# Altium footprint library 常用元件.PcbLib: 186 footprints (part 5 of 12)
Each footprint in its own frame and in the unit in brackets; x right, y up, seen from the top. Pads: shape width x height; smd on the part's side, far side on the other; paste and mask are expansions set on the pad; w line width, h text height; cw(c..) or ccw(c..) is an arc to the next point about the centre after c.
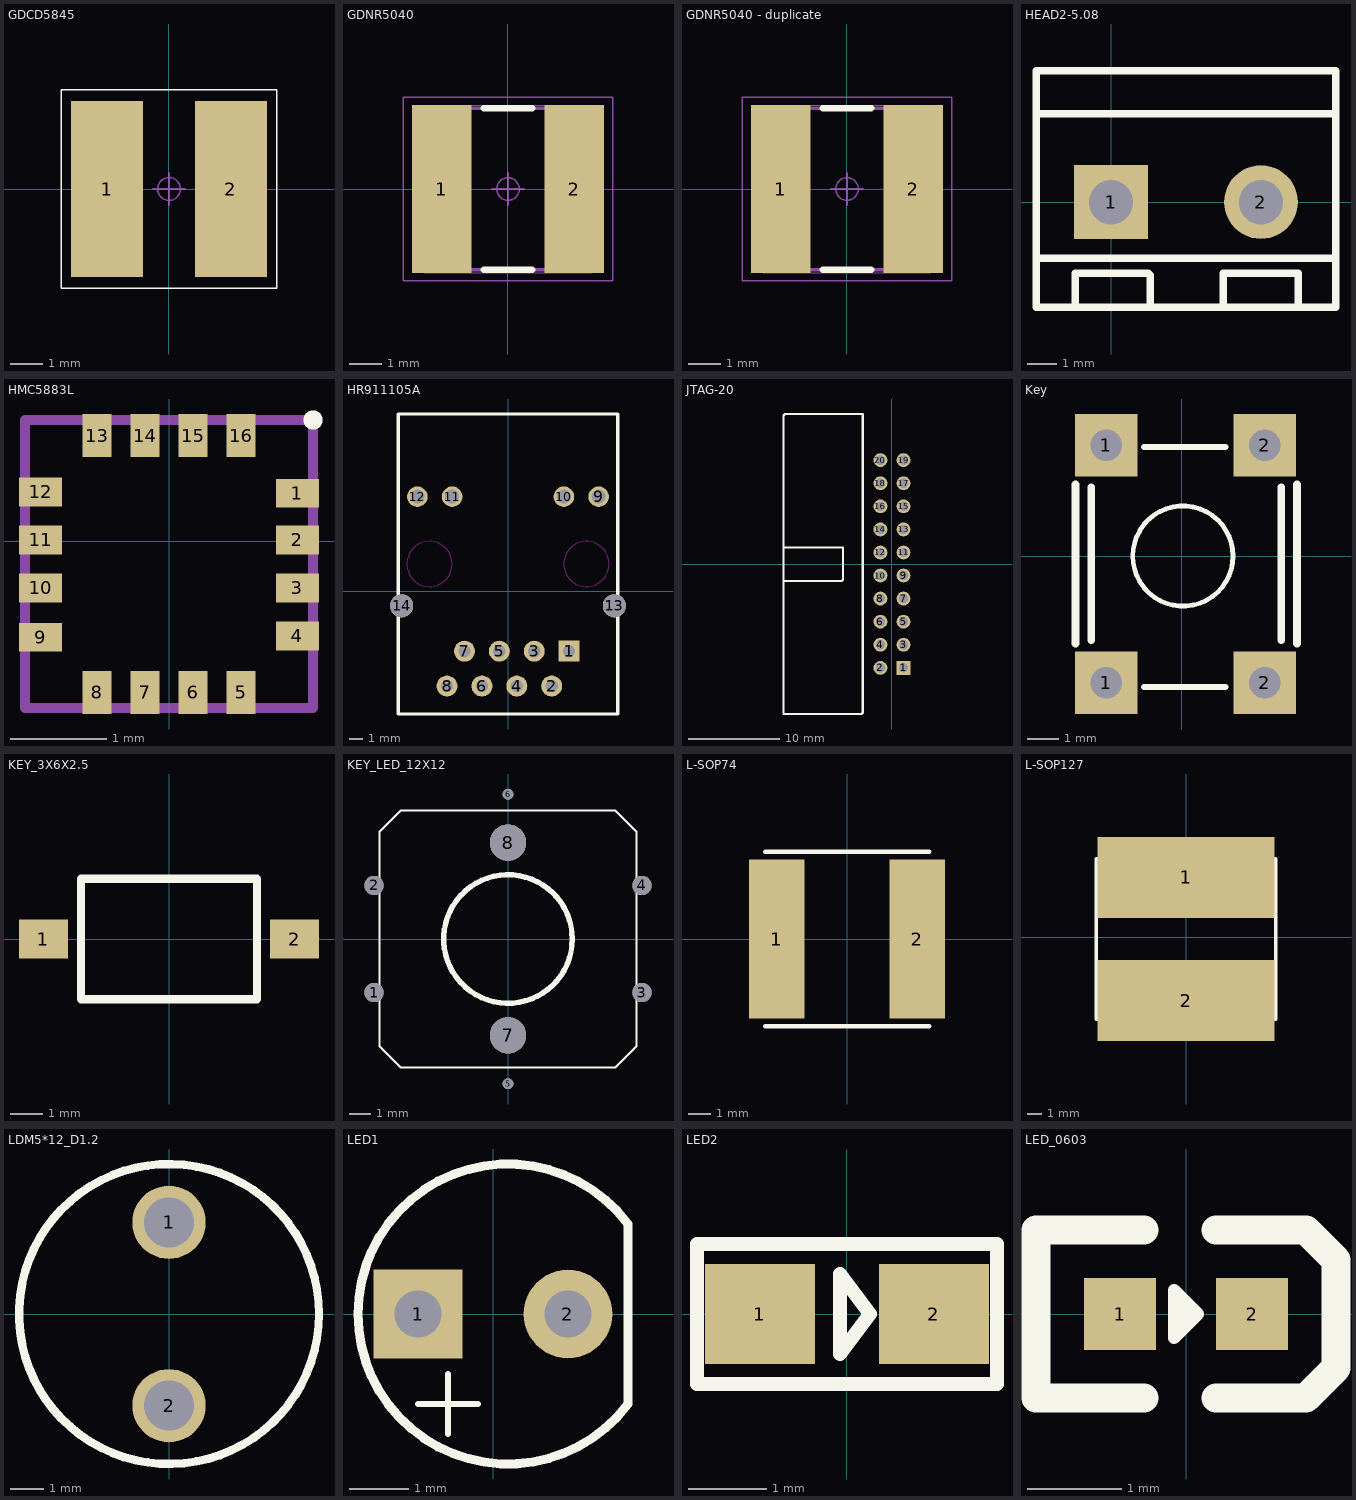
[diagram p4: the footprints below, top view; thin cyan lines are the x and y axes]

## GDCD5845 [mm]
pads (2):
  rect 2.2x5.4 smd: 1(-1.9,0) 2(1.9,0)
Top Overlay:
  lines w0.05: -3.302,-3.048 -3.302,3.048 3.302,3.048 3.302,-3.048 -3.302,-3.048
Mechanical 16:
  circle w0.05: c0,0 r0.35
  lines w0.05: -0.5,0 0.5,0 ; 0,-0.5 0,0.5

## GDNR5040 [mm]
pads (2):
  rect 1.85x5.2 smd: 1(-2.05,0) 2(2.05,0)
Top Overlay:
  lines w0.2: -0.75,-2.5 0.75,-2.5 ; -0.75,2.5 0.75,2.5
Mechanical 15:
  lines w0.1: -2.5,-2.5 -2.5,2.5 2.5,2.5 2.5,-2.5 -2.5,-2.5
Mechanical 16:
  circle w0.05: c0,0 r0.35
  lines w0.001: -2.6,-2.6 -2.6,2.6 2.6,2.6 2.6,-2.6 -2.6,-2.6
  lines w0.05: -0.5,0 0.5,0 ; 0,-0.5 0,0.5 ; -3.25,-2.85 3.25,-2.85 3.25,2.85 -3.25,2.85 -3.25,-2.85

## GDNR5040 - duplicate [mm] "5054贴片电感"
pads (2):
  rect 1.85x5.2 smd: 1(-2.05,0) 2(2.05,0)
Top Overlay:
  lines w0.2: -0.75,-2.5 0.75,-2.5 ; -0.75,2.5 0.75,2.5
Mechanical 15:
  lines w0.1: -2.5,-2.5 2.5,-2.5 2.5,2.5 -2.5,2.5 -2.5,-2.5
Mechanical 16:
  circle w0.05: c0,0 r0.35
  lines w0.001: -2.6,-2.6 2.6,-2.6 2.6,2.6 -2.6,2.6 -2.6,-2.6
  lines w0.05: -0.5,0 0.5,0 ; 0,-0.5 0,0.5 ; -3.25,-2.85 -3.25,2.85 3.25,2.85 3.25,-2.85 -3.25,-2.85

## HEAD2-5.08 [mm]
pads (2):
  rect 2.5x2.5 hole 1.5: 1(0,0)
  round 2.5 hole 1.5: 2(5.08,0)
Top Overlay:
  lines w0.254: -2.54,-1.905 7.62,-1.905 ; -2.54,3 7.62,3 ; -1.216,-3.556 -1.216,-2.476 ; -1.216,-2.413 1.261,-2.413 1.324,-2.476 1.324,-3.556 ; 3.81,-3.493 3.81,-2.413 6.35,-2.413 ; 6.35,-3.556 6.35,-2.476 ; -2.54,-3.556 -2.54,4.445 7.62,4.445 7.62,-3.556 -2.54,-3.556

## HMC5883L [mm]
pads (16):
  rect 0.45x0.3 smd: 1(1.338,0.5) 2(1.338,0.013) 3(1.338,-0.487) 4(1.338,-0.987) 9(-1.338,-1) 10(-1.338,-0.487) 11(-1.338,0.013) 12(-1.338,0.513)
  rect 0.3x0.45 smd: 5(0.75,-1.575) 6(0.25,-1.575) 7(-0.25,-1.575) 8(-0.75,-1.575) 13(-0.75,1.1) 14(-0.25,1.1) 15(0.25,1.1) 16(0.75,1.1)
Top Overlay:
  circle w0.1: c1.5,1.263 r0.05
Mechanical 15:
  lines w0.1: -1.5,-1.737 -1.5,1.263 1.5,1.263 1.5,-1.737 -1.5,-1.737

## HR911105A [mm] "RJ45网线接头"
pads (14):
  rect 1.524x1.524 hole 0.889: 1(4.45,-4.355)
  round 1.524 hole 0.889: 2(3.18,-6.895) 3(1.91,-4.355) 4(0.64,-6.895) 5(-0.63,-4.355) 6(-1.9,-6.895) 7(-3.17,-4.355) 8(-4.44,-6.895)
  round 1.5 hole 1.02: 9(6.6,6.895) 10(4.064,6.895) 11(-4.064,6.895) 12(-6.6,6.895)
  round 1.7 hole 1.65: 13(7.75,-1.053) 14(-7.75,-1.053)
Top Overlay:
  lines w0.254: -8,-8.927 -8,12.917 0,12.917 8,12.917 8,-8.927 0,-8.927 -8,-8.927
Keep-Out Layer:
  circle w0.051: c5.716,1.995 r1.65
  circle w0.051: c-5.714,1.995 r1.65
3D body: height 13.5, standoff -3, extent -7.879,-8.719 8.001,12.681

## JTAG-20 [mil] "卧式JTAG接口"
pads (20):
  rect 60x60 hole 40: 1(50,-450)
  round 60 hole 40: 2(-50,-450) 3(50,-350) 4(-50,-350) 5(50,-250) 6(-50,-250) 7(50,-150) 8(-50,-150) 9(50,-50) 10(-50,-50) 11(50,50) 12(-50,50) 13(50,150) 14(-50,150) 15(50,250) 16(-50,250) 17(50,350) 18(-50,350) 19(50,450) 20(-50,450)
Top Overlay:
  lines w10: -469.68,-648.62 -469.68,506.38 ; -469.68,-73.62 -217.24,-73.62 -212.24,-68.62 -212.24,71.38 -467.24,71.38 ; -469.68,426.38 -469.68,643.94 ; -468.31,-650 -152.24,-650 -132.24,-650 -127.24,-645 -127.24,650 -463.62,650 -469.68,643.94 ; -467.24,646.38 -469.68,643.94

## Key [mm]
pads (4):
  rect 2x2 hole 1: 1(-2.413,-4.064) 1(-2.413,3.556) 2(2.667,-4.064) 2(2.667,3.556)
Top Overlay:
  circle w0.154: c0.045,0 r1.606
  lines w0.2: -1.2,-4.2 1.4,-4.2 ; -1.2,3.5 1.4,3.5
  lines w0.245: -2.9,-2.7 -2.9,2.2 ; 3.2,-2.7 3.2,2.2
  lines w0.254: -3.4,-2.8 -3.4,2.3 ; 3.7,-2.8 3.7,2.3

## KEY_3X6X2.5 [mm] "两只脚贴片轻触按键"
pads (2):
  rect 1.5x1.2 smd: 1(-3.85,0) 2(3.85,0)
Top Overlay:
  lines w0.254: -2.7,-1.85 2.7,-1.85 2.7,1.85 -2.7,1.85 -2.7,-1.85

## KEY_LED_12X12 [mm]
pads (8):
  round 0.9 hole 0.9: 1(-6.25,-2.5) 2(-6.25,2.5) 3(6.25,-2.5) 4(6.25,2.5)
  round 0.5 hole 0.5: 5(0,-6.75) 6(0,6.75)
  round 1.7 hole 1.7: 7(0,-4.5) 8(0,4.5)
Top Overlay:
  circle w0.254: c0,0 r3
  lines w0.1: -6,-5 -6,5 -5,6 5,6 6,5 6,-5 5,-6 -5,-6 -6,-5

## L-SOP74 [mm] "带屏蔽功率电感"
pads (2):
  rect 2.5x7.2 smd: 1(-3.175,0) 2(3.175,0)
Top Overlay:
  lines w0.203: -3.683,-3.937 3.717,-3.937 ; -3.683,3.937 3.717,3.937

## L-SOP127 [mm] "电感"
pads (2):
  rect 12x5.5 smd: 1(0,4.064) 2(0,-4.318)
Top Overlay:
  lines w0.254: -6.096,-5.588 -6.096,-0.762 -6.096,0.762 -6.096,5.334 6.096,5.334 6.096,-5.588 -6.096,-5.588

## LDM5*12_D1.2 [mm]
pads (2):
  round 2.2 hole 1.5: 1(0,2.75) 2(0,-2.75)
Top Overlay:
  circle w0.254: c0,0 r4.5

## LED1 [mm]
pads (2):
  rect 1.5x1.5 hole 0.8: 1(-1.27,0)
  round 1.5 hole 0.8: 2(1.27,0)
Top Overlay:
  lines w0.1: -1.27,-1.524 -0.254,-1.524 ; -0.762,-2.032 -0.762,-1.016
  lines w0.145: 2.286,-1.524 2.286,1.524
  lines w0.154: 2.286,-1.524 cw(c0.254,0) 2.286,1.524

## LED2 [mm]
pads (2):
  rect 1.4x1.27 smd: 1(-1.105,0) 2(1.105,0)
Top Overlay:
  lines w0.178: 1.906,0.889 1.905,0.889 ; 1.905,0.889 -1.905,0.889 -1.905,0 -1.905,-0.889 1.905,-0.889 1.905,0.889 ; -0.089,-0.508 0.292,0 -0.089,0.508 -0.089,-0.508

## LED_0603 [mil]
pads (2):
  rect 30x30 smd: 1(-27.5,0) 2(27.5,0)
Top Overlay:
  lines w5: -5,0 5,0 ; 0,-5 0,5 -5,10 ; -5,10 5,0 ; -5,10 -5,-10 5,0
  lines w12: -17.5,-35 -62.5,-35 -62.5,35 -17.5,35 ; 12.5,-35 50,-35 62.5,-22.5 62.5,22.5 50,35 12.5,35